# Altium footprint library TG21_TX_Xu ly ma tran phim.PcbLib: 23 footprints (part 2 of 2)
Each footprint in its own frame and in the unit in brackets; x right, y up, seen from the top. Pads: shape width x height; smd on the part's side, far side on the other; paste and mask are expansions set on the pad; w line width, h text height; cw(c..) or ccw(c..) is an arc to the next point about the centre after c.
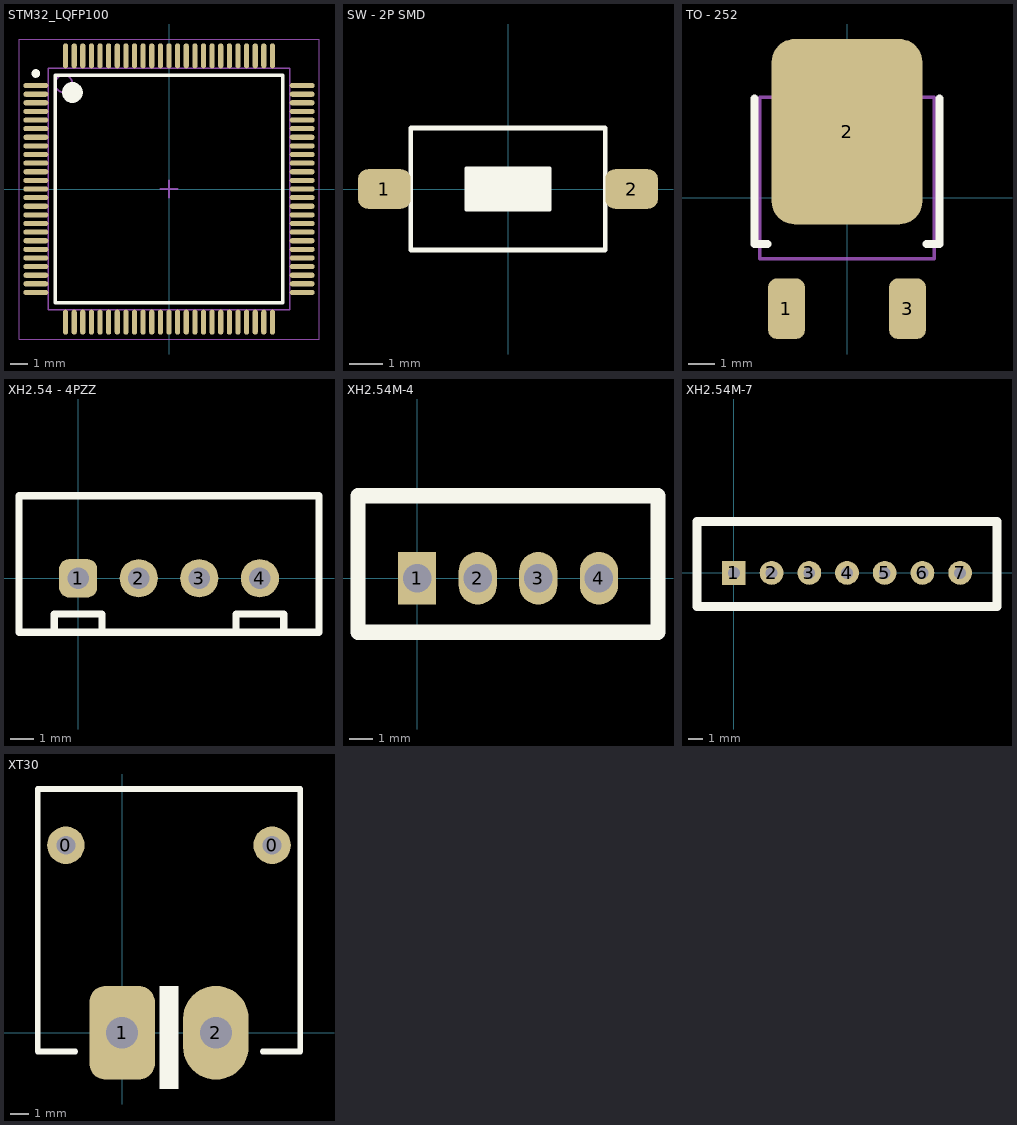
[diagram p1: the footprints below, top view; thin cyan lines are the x and y axes]

## STM32_LQFP100 [mm]
pads (100):
  oval 1.45x0.3 smd: 1(-7.725,6) 2(-7.725,5.5) 3(-7.725,5) 4(-7.725,4.5) 5(-7.725,4) 6(-7.725,3.5) 7(-7.725,3) 8(-7.725,2.5) 9(-7.725,2) 10(-7.725,1.5) 11(-7.725,1) 12(-7.725,0.5) 13(-7.725,0) 14(-7.725,-0.5) 15(-7.725,-1) 16(-7.725,-1.5) 17(-7.725,-2) 18(-7.725,-2.5) 19(-7.725,-3) 20(-7.725,-3.5) 21(-7.725,-4) 22(-7.725,-4.5) 23(-7.725,-5) 24(-7.725,-5.5) 25(-7.725,-6) 51(7.725,-6) 52(7.725,-5.5) 53(7.725,-5) 54(7.725,-4.5) 55(7.725,-4) 56(7.725,-3.5) 57(7.725,-3) 58(7.725,-2.5) 59(7.725,-2) 60(7.725,-1.5) 61(7.725,-1) 62(7.725,-0.5) 63(7.725,0) 64(7.725,0.5) 65(7.725,1) 66(7.725,1.5) 67(7.725,2) 68(7.725,2.5) 69(7.725,3) 70(7.725,3.5) 71(7.725,4) 72(7.725,4.5) 73(7.725,5) 74(7.725,5.5) 75(7.725,6)
  oval 0.3x1.45 smd: 26(-6,-7.725) 27(-5.5,-7.725) 28(-5,-7.725) 29(-4.5,-7.725) 30(-4,-7.725) 31(-3.5,-7.725) 32(-3,-7.725) 33(-2.5,-7.725) 34(-2,-7.725) 35(-1.5,-7.725) 36(-1,-7.725) 37(-0.5,-7.725) 38(0,-7.725) 39(0.5,-7.725) 40(1,-7.725) 41(1.5,-7.725) 42(2,-7.725) 43(2.5,-7.725) 44(3,-7.725) 45(3.5,-7.725) 46(4,-7.725) 47(4.5,-7.725) 48(5,-7.725) 49(5.5,-7.725) 50(6,-7.725) 76(6,7.725) 77(5.5,7.725) 78(5,7.725) 79(4.5,7.725) 80(4,7.725) 81(3.5,7.725) 82(3,7.725) 83(2.5,7.725) 84(2,7.725) 85(1.5,7.725) 86(1,7.725) 87(0.5,7.725) 88(0,7.725) 89(-0.5,7.725) 90(-1,7.725) 91(-1.5,7.725) 92(-2,7.725) 93(-2.5,7.725) 94(-3,7.725) 95(-3.5,7.725) 96(-4,7.725) 97(-4.5,7.725) 98(-5,7.725) 99(-5.5,7.725) 100(-6,7.725)
Top Overlay:
  circle w0.25: c-7.725,6.7 r0.125
  circle w0.6: c-5.6,5.6 r0.3
  lines w0.2: -6.6,-6.6 -6.6,6.6 6.6,6.6 6.6,-6.6 -6.6,-6.6
Mechanical 13:
  circle w0.1: c-6.1,6.1 r0.5
  lines w0.1: -7,-7 -7,7 7,7 7,-7 -7,-7
Mechanical 15:
  lines w0.05: -8.7,-8.7 -8.7,8.7 8.7,8.7 8.7,-8.7 -8.7,-8.7
  lines w0.1: -0.5,0 0.5,0 ; 0,-0.5 0,0.5
3D body "LQFP100.step": height 1.6, standoff 0, extent -8,-8 8,8

## SW - 2P SMD [mm]
pads (2):
  rrect50% 1.6x1.2 smd: 1(-3.75,0) 2(3.75,0)
Top Overlay:
  rectangle: -1.27,-0.635 1.27,0.635
  lines w0.1: -1.27,-0.635 -1.27,0.635 1.27,0.635 1.27,-0.635 -1.27,-0.635
  lines w0.15: -2.95,-1.854 2.95,-1.854 2.95,1.854 -2.95,1.854 -2.95,-1.854
Mechanical 13:
  lines w0.1: -2.95,-1.85 -2.95,1.85 2.95,1.85 2.95,-1.85 -2.95,-1.85
Mechanical 15:
  lines w0.1: -0.5,0 0.5,0 ; 0,-0.5 0,0.5
3D body "Tactile Switch_RS-282G05A3-SM RT.stp": height 2.5, standoff -0.02, extent -4,-1.8 4,1.8

## TO - 252 [mm]
pads (3):
  rrect50% 1.4x2.29 smd: 1(-2.285,-4.19) 3(2.285,-4.19)
  rrect30% 5.69x7 smd paste-4: 2(0,2.495)
Top Overlay:
  lines w0.3: -3.5,3.75 -3.5,-1.75 -3,-1.75 ; 3,-1.75 3.5,-1.75 3.5,3.75
Top Paste:
  region: -0.545,2.91 -0.545,1.58 -2.305,1.58 -2.305,2.91
  region: -0.545,0.85 -0.545,-0.48 -2.305,-0.48 -2.305,0.85
  region: 2.305,0.85 2.305,-0.48 0.545,-0.48 0.545,0.85
  region: 2.305,2.91 2.305,1.58 0.545,1.58 0.545,2.91
  region: 2.305,4.97 2.305,3.64 0.545,3.64 0.545,4.97
  region: -0.545,4.97 -0.545,3.64 -2.305,3.64 -2.305,4.97
Mechanical 13:
  lines w0.127: -3.3,-2.305 3.3,-2.305 3.3,3.795 -3.3,3.795 -3.3,-2.305
3D body "TO-252.step": height 2.75, standoff 0.03, extent -3.365,-4.79 3.365,5.63

## XH2.54 - 4PZZ [mm]
pads (4):
  rrect50% 1.6x1.6 hole 0.9: 1(0,0)
  round 1.6 hole 0.9: 2(2.54,0) 3(5.08,0) 4(7.62,0)
Top Overlay:
  lines w0.3: -1,-2.2 -1,-1.5 -0.95,-1.5 0.95,-1.5 1,-1.5 1,-2.2 ; 6.62,-2.2 6.62,-1.5 ; 6.67,-1.5 8.57,-1.5 ; 8.62,-2.2 8.62,-1.5 ; -2.48,-2.26 10.1,-2.26 10.1,3.46 -2.48,3.46 -2.48,-2.26
3D body "XH2.54M-4.STEP": height 6.91, standoff -1.82, extent -2.48,-2.26 10.1,3.48

## XH2.54M-4 [mm]
pads (4):
  rect 1.6x2.2 hole 1.2: 1(0,0)
  oval 1.6x2.2 hole 1.2: 2(2.54,0) 3(5.08,0) 4(7.62,0)
Top Overlay:
  lines w0.635: -2.48,-2.26 10.1,-2.26 10.1,3.46 -2.48,3.46 -2.48,-2.26
3D body "XH2.54M-4.STEP": height 6.91, standoff -1.82, extent -2.48,-2.26 10.1,3.48

## XH2.54M-7 [mm]
pads (7):
  rect 1.6x1.6 hole 0.8: 1(0,0)
  round 1.6 hole 0.8: 2(2.54,0) 3(5.08,0) 4(7.62,0) 5(10.16,0) 6(12.7,0) 7(15.24,0)
Top Overlay:
  lines w0.635: -2.48,-2.26 -2.48,3.46 17.72,3.46 17.72,-2.26 -2.48,-2.26
3D body "XH2.54M-7.STEP": height 6.91, standoff -1.82, extent -2.48,-2.26 17.72,3.48

## XT30 [mm]
pads (4):
  round 2 hole 1: 0(-3,10) 0(8,10)
  rrect50% 3.5x5 hole 1.7: 1(0,0)
  oval 3.5x5 hole 1.7: 2(5,0)
Top Overlay:
  rectangle: 2,-3 3,2.5
  lines w0.3: -2.5,-1 -4.5,-1 -4.5,13 9.5,13 9.5,-1 7.5,-1
3D body "User Library-XT30PW-M.STEP": height 5, standoff -2, extent -4.15,-1 9.15,12.95